# EAGLE library part 621X06242921 (library Wurth_Elektronik_Electromechanic_Board_to_Board_Connectors_rev16a)
WR-PHD 2.00mm Dual SMT Socket Header, 6 Pins=>Code : Con_BTB_SHD_2.00_2_621x06242921(Packaging:x = 0: Tube x = 3: Tape & Reel with Cap; 600 pcs/Reel) <http://katalog.we-online.de/media/thumbs2/eican/thb_Con_BTB_SHD_2.00_2_6210xx242921_pf2.jpg> 6210xx242921 Details see: http://katalog.we-online.de/en/em/621_0xx_242_921 6213xx242921 Details see: http://katalog.we-online.de/en/em/PHD_2_00_SMT_DUAL_SOCKET_HEADER_REEL_6213XX242921 2014 (C) Würth Elektronik
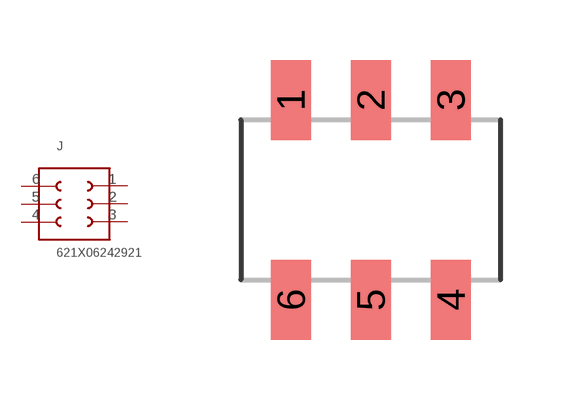
[diagram p266: symbol with the pads of 621X06242921; footprint 621X06242921]

Designator prefix J

## 621X06242921  [621X06242921]
1  1  pas
2  2  pas
3  3  pas
4  4  pas
5  5  pas
6  6  pas

## Footprint 621X06242921 (pad centres in mm)
WR-PHD 2.00mm Dual SMT Socket Header, 6 Pins
smd 1 x 2: 1 -2,2.5; 2 0,2.5; 3 2,2.5; 4 2,-2.5; 5 0,-2.5; 6 -2,-2.5